# Altium footprint library Package_TO_SOT_SMD.PcbLib: 125 footprints (part 6 of 8)
Each footprint in its own frame and in the unit in brackets; x right, y up, seen from the top. Pads: shape width x height; smd on the part's side, far side on the other; paste and mask are expansions set on the pad; w line width, h text height; cw(c..) or ccw(c..) is an arc to the next point about the centre after c.
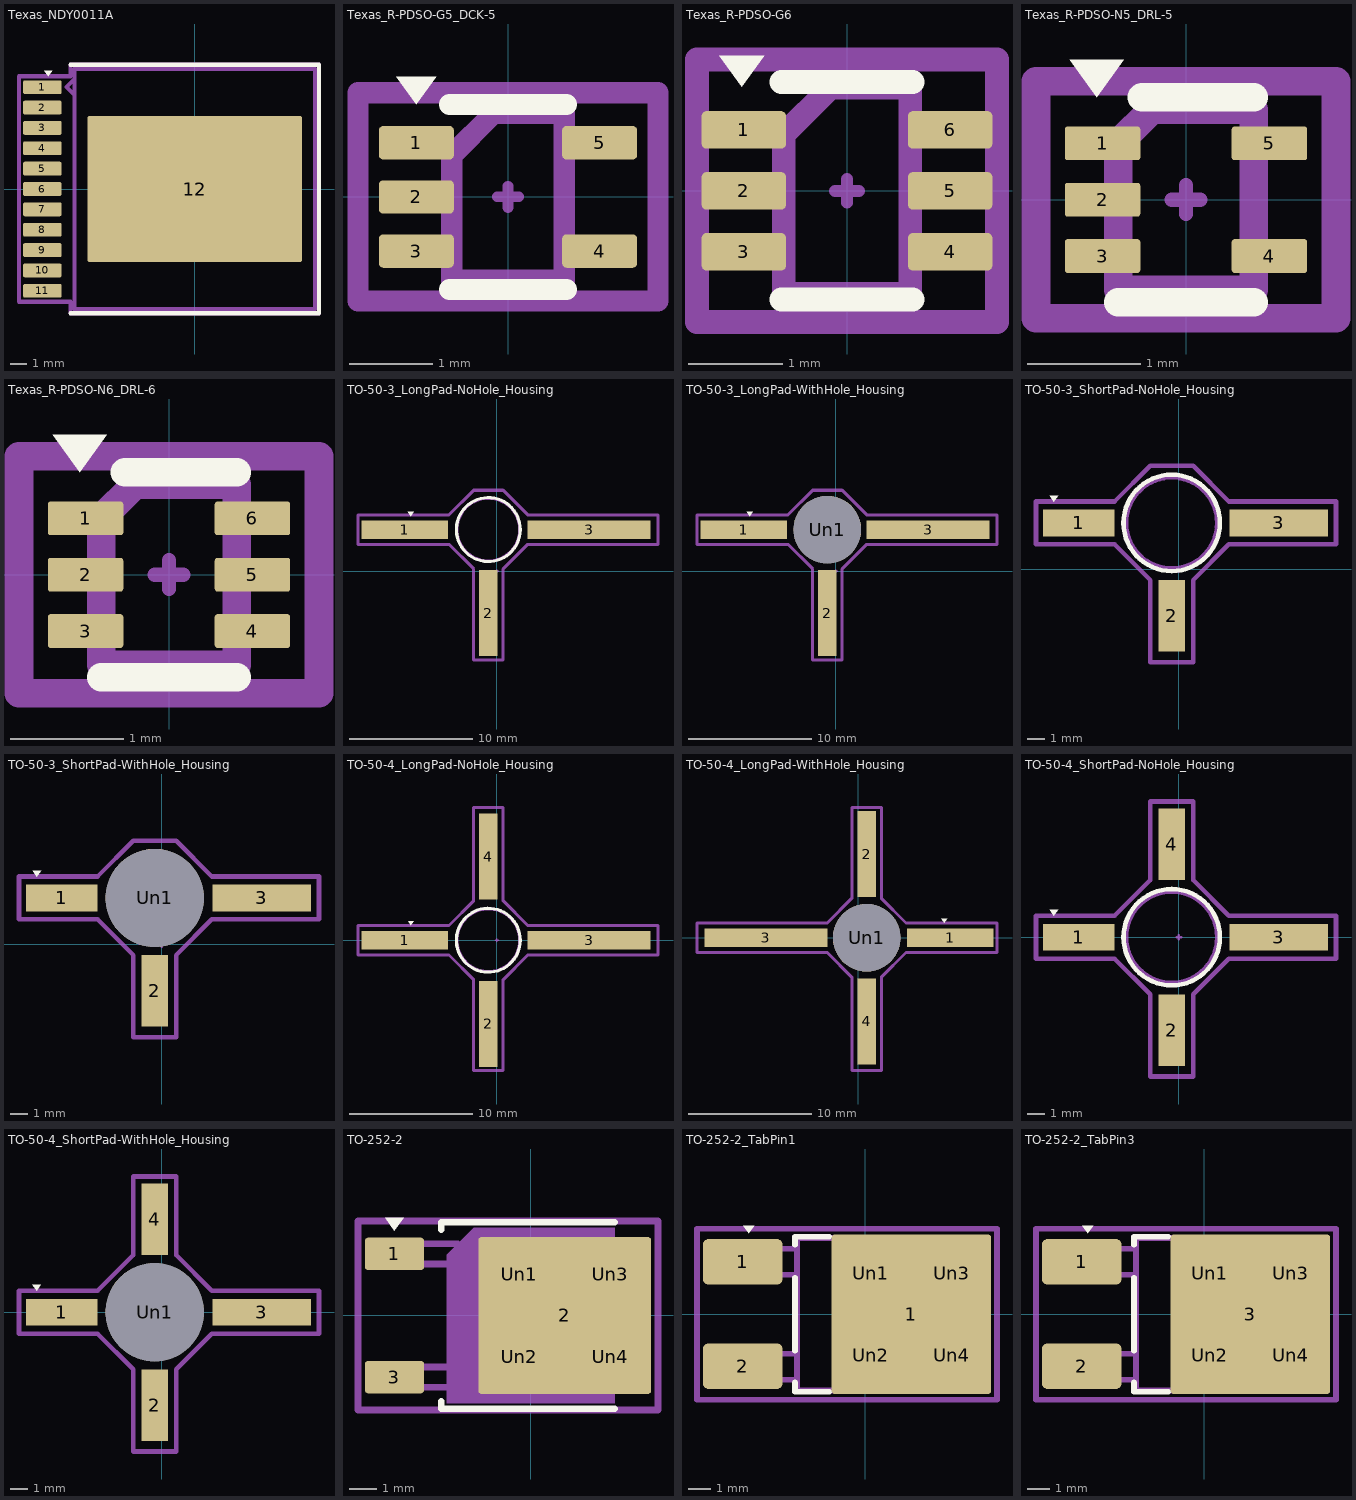
[diagram p5: the footprints below, top view; thin cyan lines are the x and y axes]

## Texas_NDY0011A [mm] "Texas_NDY0011A"
pads (12):
  rrect25% 2.41x0.86 smd: 1(-9.5,6.35) 2(-9.5,5.08) 3(-9.5,3.81) 4(-9.5,2.54) 5(-9.5,1.27) 6(-9.5,0) 7(-9.5,-1.27) 8(-9.5,-2.54) 9(-9.5,-3.81) 10(-9.5,-5.08) 11(-9.5,-6.35)
  rrect3% 13.37x9.126 smd: 12(0,0)
F.SilkS:
  region: -9.14,7.04 -9.38,7.37 -8.9,7.37
  lines w0.254: -7.75,-7.75 7.75,-7.75 7.75,7.75 -7.75,7.75
Top Component Center:
  lines w0.127: -0.127,0 0.127,0 ; 0,-0.127 0,0.127
Top Assembly:
  lines w0.254: -7.5,5.85 -8,6.35 -7.5,6.85 ; -7.5,-7.5 7.5,-7.5 7.5,7.5 -7.5,7.5 -7.5,-7.5
Top Courtyard:
  lines w0.254: -10.96,-7.03 -7.75,-7.03 -7.75,-7.75 7.75,-7.75 7.75,7.75 -7.75,7.75 -7.75,7.03 -10.96,7.03 -10.96,-7.03
Top Designator:
  text ".Designator" at -3.432,-0.345 h1.52

## Texas_R-PDSO-G5_DCK-5 [mm] "Texas_R-PDSO-G5_DCK-5"
pads (5):
  rrect25% 0.9x0.4 smd: 1(-1.1,0.65) 2(-1.1,0) 3(-1.1,-0.65) 4(1.1,-0.65) 5(1.1,0.65)
F.SilkS:
  region: -1.1,1.11 -1.34,1.44 -0.86,1.44
  lines w0.254: -0.7,-1.11 0.7,-1.11 ; -0.7,1.11 0.7,1.11
Top Component Center:
  lines w0.127: -0.127,0 0.127,0 ; 0,-0.127 0,0.127
Top Assembly:
  lines w0.254: -0.675,-1 -0.675,0.5 -0.175,1 0.675,1 0.675,-1 -0.675,-1
Top Courtyard:
  lines w0.254: -1.8,-1.25 -1.8,1.25 1.8,1.25 1.8,-1.25 -1.8,-1.25
Top Designator:
  text ".Designator" at -3.432,-0.345 h1.52

## Texas_R-PDSO-G6 [mm] "Texas_R-PDSO-G6"
pads (6):
  rrect25% 0.9x0.4 smd: 1(-1.1,0.65) 2(-1.1,0) 3(-1.1,-0.65) 4(1.1,-0.65) 5(1.1,0) 6(1.1,0.65)
F.SilkS:
  region: -1.12,1.11 -1.36,1.44 -0.88,1.44
  lines w0.254: -0.7,-1.16 0.7,-1.16 ; -0.7,1.16 0.7,1.16
Top Component Center:
  lines w0.127: -0.127,0 0.127,0 ; 0,-0.127 0,0.127
Top Assembly:
  lines w0.254: -0.675,-1.1 0.675,-1.1 0.675,1.1 -0.175,1.1 -0.675,0.6 -0.675,-1.1
Top Courtyard:
  lines w0.254: -1.6,-1.4 1.6,-1.4 1.6,1.4 -1.6,1.4 -1.6,-1.4
Top Designator:
  text ".Designator" at -2.253,-0.226 h1

## Texas_R-PDSO-N5_DRL-5 [mm] "Texas_R-PDSO-N5_DRL-5"
pads (5):
  rrect17% 0.67x0.3 smd: 1(-0.74,0.5) 2(-0.74,0) 3(-0.74,-0.5) 4(0.74,-0.5) 5(0.74,0.5)
F.SilkS:
  region: -0.79,0.91 -1.03,1.24 -0.55,1.24
  lines w0.254: -0.6,-0.91 0,-0.91 0.6,-0.91 ; -0.39,0.91 0.6,0.91
Top Component Center:
  lines w0.127: -0.127,0 0.127,0 ; 0,-0.127 0,0.127
Top Assembly:
  lines w0.254: -0.6,-0.8 -0.6,0.5 -0.3,0.8 0.6,0.8 0.6,-0.8 -0.6,-0.8
Top Courtyard:
  lines w0.254: -1.33,-1.05 -1.33,1.05 1.33,1.05 1.33,-1.05 -1.33,-1.05
Top Designator:
  text ".Designator" at -2.253,-0.226 h1

## Texas_R-PDSO-N6_DRL-6 [mm] "Texas_R-PDSO-N6_DRL-6"
pads (6):
  rrect17% 0.67x0.3 smd: 1(-0.74,0.5) 2(-0.74,0) 3(-0.74,-0.5) 4(0.74,-0.5) 5(0.74,0) 6(0.74,0.5)
F.SilkS:
  region: -0.79,0.91 -1.03,1.24 -0.55,1.24
  lines w0.254: -0.6,-0.91 0,-0.91 0.6,-0.91 ; -0.39,0.91 0.6,0.91
Top Component Center:
  lines w0.127: -0.127,0 0.127,0 ; 0,-0.127 0,0.127
Top Assembly:
  lines w0.254: -0.6,-0.8 0.6,-0.8 0.6,0.8 -0.3,0.8 -0.6,0.5 -0.6,-0.8
Top Courtyard:
  lines w0.254: -1.33,-1.05 1.33,-1.05 1.33,1.05 -1.33,1.05 -1.33,-1.05
Top Designator:
  text ".Designator" at -2.253,-0.226 h1

## TO-50-3_LongPad-NoHole_Housing [mm] "TO-50-3_LongPad-NoHole_Housing"
pads (3):
  rect 7x1.5 smd: 1(-7.5,3.4)
  rect 1.5x7 smd: 2(-0.7,-3.4)
  rect 10x1.5 smd: 3(7.5,3.4)
F.SilkS:
  circle w0.254: c-0.7,3.4 r2.6
  region: -7,4.5 -7.24,4.83 -6.76,4.83
Top Component Center:
  lines w0.127: -0.127,0 0.127,0 ; 0,-0.127 0,0.127
Top Assembly:
  circle w0.254: c-0.7,3.4 r2.55
Top Courtyard:
  lines w0.254: -11.3,2.2 -11.3,4.6 -3.9,4.6 -1.9,6.6 0.5,6.6 2.5,4.6 13.1,4.6 13.1,2.2 2.5,2.2 0.5,0.2 0.5,-7.2 -1.9,-7.2 -1.9,0.2 -3.9,2.2 -11.3,2.2
Top Designator:
  text ".Designator" at -2.253,-0.226 h1

## TO-50-3_LongPad-WithHole_Housing [mm] "TO-50-3_LongPad-WithHole_Housing"
pads (4):
  rect 7x1.5 smd: 1(-7.5,3.4)
  rect 1.5x7 smd: 2(-0.7,-3.4)
  rect 10x1.5 smd: 3(7.5,3.4)
  round 5.5 hole 5.5: Un1(-0.7,3.4)
F.SilkS:
  region: -7,4.5 -7.24,4.83 -6.76,4.83
Top Component Center:
  lines w0.127: -0.127,0 0.127,0 ; 0,-0.127 0,0.127
Top Assembly:
  circle w0.254: c-0.7,3.4 r2.55
Top Courtyard:
  lines w0.254: -11.3,2.2 -3.9,2.2 -1.9,0.2 -1.9,-7.2 0.5,-7.2 0.5,0.2 2.5,2.2 13.1,2.2 13.1,4.6 2.5,4.6 0.5,6.6 -1.9,6.6 -3.9,4.6 -11.3,4.6 -11.3,2.2
Top Designator:
  text ".Designator" at -2.253,-0.226 h1

## TO-50-3_ShortPad-NoHole_Housing [mm] "TO-50-3_ShortPad-NoHole_Housing"
pads (3):
  rect 4x1.5 smd: 1(-5.6,2.6)
  rect 1.5x4 smd: 2(-0.4,-2.6)
  rect 5.5x1.5 smd: 3(5.6,2.6)
F.SilkS:
  circle w0.254: c-0.4,2.6 r2.7
  region: -7,3.79 -7.24,4.12 -6.76,4.12
Top Component Center:
  lines w0.127: -0.127,0 0.127,0 ; 0,-0.127 0,0.127
Top Assembly:
  circle w0.254: c-0.4,2.6 r2.55
Top Courtyard:
  lines w0.254: -8,1.4 -8,3.8 -3.6,3.8 -1.6,5.8 0.8,5.8 2.8,3.8 8.8,3.8 8.8,1.4 2.8,1.4 0.8,-0.6 0.8,-5.2 -1.6,-5.2 -1.6,-0.6 -3.6,1.4 -8,1.4
Top Designator:
  text ".Designator" at -3.432,-0.345 h1.52

## TO-50-3_ShortPad-WithHole_Housing [mm] "TO-50-3_ShortPad-WithHole_Housing"
pads (4):
  rect 4x1.5 smd: 1(-5.6,2.6)
  rect 1.5x4 smd: 2(-0.4,-2.6)
  rect 5.5x1.5 smd: 3(5.6,2.6)
  round 5.5 hole 5.5: Un1(-0.4,2.6)
F.SilkS:
  region: -7,3.79 -7.24,4.12 -6.76,4.12
Top Component Center:
  lines w0.127: -0.127,0 0.127,0 ; 0,-0.127 0,0.127
Top Assembly:
  circle w0.254: c-0.4,2.6 r2.55
Top Courtyard:
  lines w0.254: -8,1.4 -8,3.8 -3.6,3.8 -1.6,5.8 0.8,5.8 2.8,3.8 8.8,3.8 8.8,1.4 2.8,1.4 0.8,-0.6 0.8,-5.2 -1.6,-5.2 -1.6,-0.6 -3.6,1.4 -8,1.4
Top Designator:
  text ".Designator" at -2.253,-0.226 h1

## TO-50-4_LongPad-NoHole_Housing [mm] "TO-50-4_LongPad-NoHole_Housing"
pads (4):
  rect 7x1.5 smd: 1(-7.5,0)
  rect 1.5x7 smd: 2(-0.7,-6.8) 4(-0.7,6.8)
  rect 10x1.5 smd: 3(7.5,0)
F.SilkS:
  circle w0.254: c-0.7,0 r2.6
  region: -6.99,1.21 -7.23,1.54 -6.75,1.54
Top Component Center:
  lines w0.127: -0.127,0 0.127,0 ; 0,-0.127 0,0.127
Top Assembly:
  circle w0.254: c-0.7,0 r2.55
Top Courtyard:
  lines w0.254: -11.3,-1.2 -3.9,-1.2 -1.9,-3.2 -1.9,-10.6 0.5,-10.6 0.5,-3.2 2.5,-1.2 13.1,-1.2 13.1,1.2 2.5,1.2 0.5,3.2 0.5,10.8 -1.9,10.8 -1.9,3.2 -3.9,1.2 -11.3,1.2 -11.3,-1.2
Top Designator:
  text ".Designator" at -3.432,-0.345 h1.52

## TO-50-4_LongPad-WithHole_Housing [mm] "TO-50-4_LongPad-WithHole_Housing"
pads (5):
  rect 7x1.5 smd: 1(7.5,0)
  rect 1.5x7 smd: 2(0.7,6.8) 4(0.7,-6.8)
  rect 10x1.5 smd: 3(-7.5,0)
  round 5.5 hole 5.5: Un1(0.7,0)
F.SilkS:
  region: 7.01,1.21 6.77,1.54 7.25,1.54
Top Component Center:
  lines w0.127: -0.127,0 0.127,0 ; 0,-0.127 0,0.127
Top Assembly:
  circle w0.254: c0.7,0 r2.55
Top Courtyard:
  lines w0.254: -13.1,-1.2 -13.1,1.2 -2.5,1.2 -0.5,3.2 -0.5,10.6 1.9,10.6 1.9,3.2 3.9,1.2 11.3,1.2 11.3,-1.2 3.9,-1.2 1.9,-3.2 1.9,-10.8 -0.5,-10.8 -0.5,-3.2 -2.5,-1.2 -13.1,-1.2
Top Designator:
  text ".Designator" at -3.432,-0.345 h1.52

## TO-50-4_ShortPad-NoHole_Housing [mm] "TO-50-4_ShortPad-NoHole_Housing"
pads (4):
  rect 4x1.5 smd: 1(-5.6,0)
  rect 1.5x4 smd: 2(-0.4,-5.2) 4(-0.4,5.2)
  rect 5.5x1.5 smd: 3(5.6,0)
F.SilkS:
  circle w0.254: c-0.4,0 r2.7
  region: -7,1.2 -7.24,1.53 -6.76,1.53
Top Component Center:
  lines w0.127: -0.127,0 0.127,0 ; 0,-0.127 0,0.127
Top Assembly:
  circle w0.254: c-0.4,0 r2.55
Top Courtyard:
  lines w0.254: -8,-1.2 -8,1.2 -3.6,1.2 -1.6,3.2 -1.6,7.6 0.8,7.6 0.8,3.2 2.8,1.2 8.8,1.2 8.8,-1.2 2.8,-1.2 0.8,-3.2 0.8,-7.8 -1.6,-7.8 -1.6,-3.2 -3.6,-1.2 -8,-1.2
Top Designator:
  text ".Designator" at -3.432,-0.345 h1.52

## TO-50-4_ShortPad-WithHole_Housing [mm] "TO-50-4_ShortPad-WithHole_Housing"
pads (5):
  rect 4x1.5 smd: 1(-5.6,0)
  rect 1.5x4 smd: 2(-0.4,-5.2) 4(-0.4,5.2)
  rect 5.5x1.5 smd: 3(5.6,0)
  round 5.5 hole 5.5: Un1(-0.4,0)
F.SilkS:
  region: -7.01,1.2 -7.25,1.53 -6.77,1.53
Top Component Center:
  lines w0.127: -0.127,0 0.127,0 ; 0,-0.127 0,0.127
Top Assembly:
  circle w0.254: c-0.4,0 r2.55
Top Courtyard:
  lines w0.254: -8,-1.2 -8,1.2 -3.6,1.2 -1.6,3.2 -1.6,7.6 0.8,7.6 0.8,3.2 2.8,1.2 8.8,1.2 8.8,-1.2 2.8,-1.2 0.8,-3.2 0.8,-7.8 -1.6,-7.8 -1.6,-3.2 -3.6,-1.2 -8,-1.2
Top Designator:
  text ".Designator" at -3.432,-0.345 h1.52

## TO-252-2 [mm] "TO-252-2"
pads (7):
  rrect21% 2.2x1.2 smd: 1(-5.04,2.28) 3(-5.04,-2.28)
  rrect4% 6.4x5.8 smd: 2(1.26,0)
  rrect9% 3.05x2.75 on Top Paste: Un1(-0.415,1.525) Un2(-0.415,-1.525) Un3(2.935,1.525) Un4(2.935,-1.525)
F.SilkS:
  region: -5.04,3.14 -5.38,3.61 -4.7,3.61
  lines w0.254: -3.31,-3.18 -3.31,-3.45 3.11,-3.45 ; -3.31,3.18 -3.31,3.45 3.11,3.45
Top Component Center:
  lines w0.127: -0.127,0 0.127,0 ; 0,-0.127 0,0.127
Top Assembly:
  region: 3.11,-3.25 -3.11,-3.25 -3.11,2.25 -2.11,3.25 3.11,3.25
  lines w0.254: -3.11,-2.655 -5.81,-2.655 -5.81,-1.905 -3.11,-1.905 ; -3.11,1.905 -5.81,1.905 -5.81,2.655 -2.705,2.655 ; 3.11,-2.7 4.11,-2.7 4.11,2.7 3.11,2.7
Top Courtyard:
  lines w0.254: -6.39,-3.5 4.71,-3.5 4.71,3.5 -6.39,3.5 -6.39,-3.5
Top Designator:
  text ".Designator" at -3.432,-0.345 h1.52
3D body "TO-252-2.step": height 2.32, standoff 0, extent -5.79,-3.25 4.11,3.25

## TO-252-2_TabPin1 [mm] "TO-252-2_TabPin1"
pads (7):
  rrect25% 3.5x2 smd: 1(-5.375,2.3) 2(-5.375,-2.28)
  rrect4% 7x7 smd: 1(2.025,0)
  rrect8% 3.3x3.3 on Top Paste: Un1(0.25,1.8) Un2(0.25,-1.8) Un3(3.8,1.8) Un4(3.8,-1.8)
F.SilkS:
  region: -5.11,3.56 -5.35,3.89 -4.87,3.89
  lines w0.254: -3.075,-3 -3.075,-3.4 -1.575,-3.4 ; -3.075,-1.6 -3.075,1.6 ; -3.075,3.05 -3.075,3.4 -1.575,3.4
Top Component Center:
  lines w0.127: -0.127,0 0.127,0 ; 0,-0.127 0,0.127
Top Assembly:
  lines w0.254: -2.995,-2.87 -5.905,-2.87 -5.905,-1.73 -2.995,-1.73 ; -2.995,1.73 -5.905,1.73 -5.905,2.87 -2.995,2.87 ; 2.995,-2.71 4.205,-2.71 4.205,2.71 3.005,2.71 ; -2.995,-3.35 2.995,-3.35 2.995,3.35 -2.995,3.35 -2.995,-3.35
Top Courtyard:
  lines w0.254: -7.38,-3.75 5.78,-3.75 5.78,3.75 -7.38,3.75 -7.38,-3.75
Top Designator:
  text ".Designator" at -3.432,-0.345 h1.52
3D body "TO-252-2_TabPin1.step": height 2.32, standoff 0, extent -5.79,-3.25 4.11,3.25

## TO-252-2_TabPin3 [mm] "TO-252-2_TabPin1"
pads (7):
  rrect25% 3.5x2 smd: 1(-5.375,2.3) 2(-5.375,-2.28)
  rrect4% 7x7 smd: 3(2.025,0)
  rrect8% 3.3x3.3 on Top Paste: Un1(0.25,1.8) Un2(0.25,-1.8) Un3(3.8,1.8) Un4(3.8,-1.8)
F.SilkS:
  region: -5.11,3.56 -5.35,3.89 -4.87,3.89
  lines w0.254: -3.075,-3 -3.075,-3.4 -1.575,-3.4 ; -3.075,-1.6 -3.075,1.6 ; -3.075,3.05 -3.075,3.4 -1.575,3.4
Top Component Center:
  lines w0.127: -0.127,0 0.127,0 ; 0,-0.127 0,0.127
Top Assembly:
  lines w0.254: -2.995,-2.87 -5.905,-2.87 -5.905,-1.73 -2.995,-1.73 ; -2.995,1.73 -5.905,1.73 -5.905,2.87 -2.995,2.87 ; 2.995,-2.71 4.205,-2.71 4.205,2.71 3.005,2.71 ; -2.995,-3.35 -2.995,3.35 2.995,3.35 2.995,-3.35 -2.995,-3.35
Top Courtyard:
  lines w0.254: -7.38,-3.75 -7.38,3.75 5.78,3.75 5.78,-3.75 -7.38,-3.75
Top Designator:
  text ".Designator" at -3.432,-0.345 h1.52
3D body "TO-252-2_TabPin1.step": height 2.32, standoff 0, extent -5.79,-3.25 4.11,3.25